# Altium schematic symbol library SN74LVC1G125.Schlib: 1 symbol
Pins are listed as number, name and electrical type; pins without a type are passive.

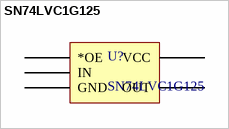
[diagram p0: symbol SN74LVC1G125]

## SN74LVC1G125
designator U?
Buffer/Line Driver, Non-Inverting, Output Enable
pins: 1 *OE, 2 IN, 3 GND, 4 OUT, 5 VCC